# Altium footprint library KF接线端子.PcbLib: 35 footprints (part 3 of 3)
Each footprint in its own frame and in the unit in brackets; x right, y up, seen from the top. Pads: shape width x height; smd on the part's side, far side on the other; paste and mask are expansions set on the pad; w line width, h text height; cw(c..) or ccw(c..) is an arc to the next point about the centre after c.
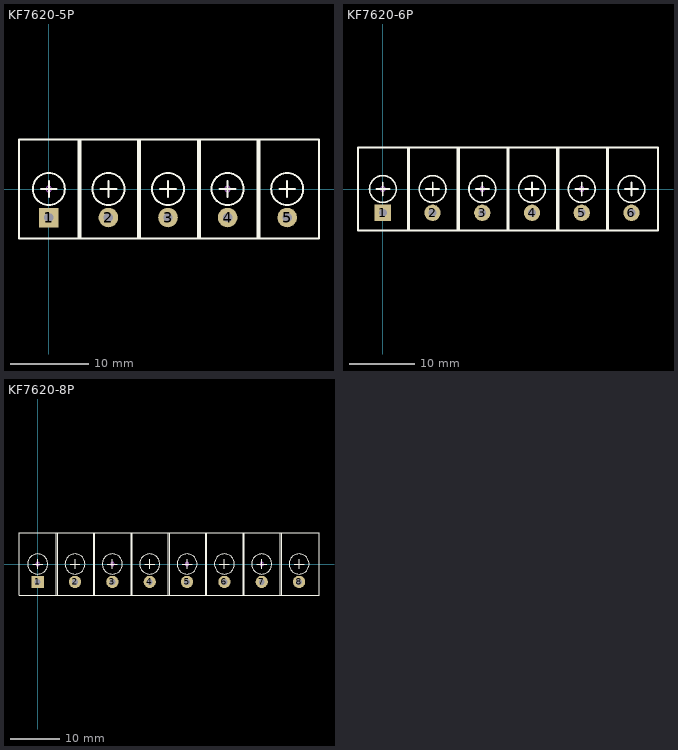
[diagram p2: the footprints below, top view; thin cyan lines are the x and y axes]

## KF7620-5P [mm] "38.1*12*12mm(长宽高)"
pads (5):
  rect 2.5x2.5 hole 1.2: 1(0,-3.65)
  round 2.5 hole 1.2: 2(7.62,-3.65) 3(15.24,-3.65) 4(22.86,-3.65) 5(30.48,-3.65)
Top Overlay:
  circle w0.254: c22.86,0 r2.048
  circle w0.254: c30.48,0 r2.048
  circle w0.254: c0,0 r2.048
  circle w0.254: c7.62,0 r2.048
  circle w0.254: c15.24,0 r2.048
  lines w0.254: -1.016,0 1.016,0 ; 0,-1.016 0,1.016 ; 3.81,-6.35 3.81,6.35 ; 4.064,6.35 4.064,-6.35 4.318,-6.35 ; 6.604,0 8.636,0 ; 7.62,-1.016 7.62,1.016 ; 11.43,-6.35 11.43,6.35 ; 14.224,0 16.256,0 ; 15.24,-1.016 15.24,1.016 ; 21.844,0 23.876,0 ; 22.86,-1.016 22.86,1.016 ; 26.67,-6.35 26.67,6.35 ; 26.924,6.35 26.924,-6.35 27.178,-6.35 ; 29.464,0 31.496,0 ; 30.48,-1.016 30.48,1.016 ; 11.684,-6.35 11.684,6.35 ; 11.684,-6.35 -3.81,-6.35 -3.81,6.35 11.684,6.35 ; 11.684,-6.35 19.304,-6.35 19.304,6.35 11.684,6.35 ; 19.05,-6.35 34.544,-6.35 34.544,6.35 19.05,6.35 19.05,-6.35
Mechanical 15:
  circle w0.05: c22.86,0 r0.35
  circle w0.05: c0,0 r0.35
  lines w0.05: -0.5,0 0.5,0 ; 0,-0.5 0,0.5 ; 22.36,0 23.36,0 ; 22.86,-0.5 22.86,0.5
3D body "KF7620.STEP": height 12.45, standoff -3.45, extent 26.67,-6.2 34.99,6.2
3D body "KF7620.STEP": height 12.45, standoff -3.45, extent 19.05,-6.2 27.37,6.2
3D body "KF7620.STEP": height 12.45, standoff -3.45, extent 3.81,-6.2 12.13,6.2
3D body "KF7620.STEP": height 12.45, standoff -3.45, extent -3.81,-6.2 4.51,6.2
3D body "KF7620.STEP": height 12.45, standoff -3.45, extent 11.43,-6.2 19.75,6.2

## KF7620-6P [mm] "45.7*12*12mm(长宽高)"
pads (6):
  rect 2.5x2.5 hole 1.2: 1(0,-3.65)
  round 2.5 hole 1.2: 2(7.62,-3.65) 3(15.24,-3.65) 4(22.86,-3.65) 5(30.48,-3.65) 6(38.1,-3.65)
Top Overlay:
  circle w0.254: c30.48,0 r2.048
  circle w0.254: c38.1,0 r2.048
  circle w0.254: c7.62,0 r2.048
  circle w0.254: c0,0 r2.048
  circle w0.254: c15.24,0 r2.048
  circle w0.254: c22.86,0 r2.048
  lines w0.254: -1.016,0 1.016,0 ; 0,-1.016 0,1.016 ; 3.81,-6.35 3.81,6.35 ; 4.064,6.35 4.064,-6.35 4.318,-6.35 ; 6.604,0 8.636,0 ; 7.62,-1.016 7.62,1.016 ; 14.224,0 16.256,0 ; 15.24,-1.016 15.24,1.016 ; 19.05,-6.35 19.05,6.35 ; 19.304,6.35 19.304,-6.35 19.558,-6.35 ; 21.844,0 23.876,0 ; 22.86,-1.016 22.86,1.016 ; 29.464,0 31.496,0 ; 30.48,-1.016 30.48,1.016 ; 34.29,-6.35 34.29,6.35 ; 34.544,6.35 34.544,-6.35 34.798,-6.35 ; 37.084,0 39.116,0 ; 38.1,-1.016 38.1,1.016 ; -3.81,-6.35 -3.81,6.35 11.684,6.35 11.684,-6.35 -3.81,-6.35 ; 11.43,-6.35 26.924,-6.35 26.924,6.35 11.43,6.35 11.43,-6.35 ; 26.67,-6.35 42.164,-6.35 42.164,6.35 26.67,6.35 26.67,-6.35
Mechanical 15:
  circle w0.05: c30.48,0 r0.35
  circle w0.05: c0,0 r0.35
  circle w0.05: c15.24,0 r0.35
  lines w0.05: -0.5,0 0.5,0 ; 0,-0.5 0,0.5 ; 14.74,0 15.74,0 ; 15.24,-0.5 15.24,0.5 ; 29.98,0 30.98,0 ; 30.48,-0.5 30.48,0.5
3D body "KF7620.STEP": height 12.45, standoff -3.45, extent 34.29,-6.2 42.61,6.2
3D body "KF7620.STEP": height 12.45, standoff -3.45, extent 26.67,-6.2 34.99,6.2
3D body "KF7620.STEP": height 12.45, standoff -3.45, extent -3.81,-6.2 4.51,6.2
3D body "KF7620.STEP": height 12.45, standoff -3.45, extent 3.81,-6.2 12.13,6.2
3D body "KF7620.STEP": height 12.45, standoff -3.45, extent 19.05,-6.2 27.37,6.2
3D body "KF7620.STEP": height 12.45, standoff -3.45, extent 11.43,-6.2 19.75,6.2

## KF7620-8P [mm] "61*12*12mm(长宽高)"
pads (8):
  rect 2.5x2.5 hole 1.2: 1(0,-3.65)
  round 2.5 hole 1.2: 2(7.62,-3.65) 3(15.24,-3.65) 4(22.86,-3.65) 5(30.48,-3.65) 6(38.1,-3.65) 7(45.72,-3.65) 8(53.34,-3.65)
Top Overlay:
  circle w0.254: c53.34,0 r2.048
  circle w0.254: c45.72,0 r2.048
  circle w0.254: c30.48,0 r2.048
  circle w0.254: c38.1,0 r2.048
  circle w0.254: c7.62,0 r2.048
  circle w0.254: c0,0 r2.048
  circle w0.254: c15.24,0 r2.048
  circle w0.254: c22.86,0 r2.048
  lines w0.254: -1.016,0 1.016,0 ; 0,-1.016 0,1.016 ; 3.81,-6.35 3.81,6.35 ; 4.064,6.35 4.064,-6.35 4.318,-6.35 ; 6.604,0 8.636,0 ; 7.62,-1.016 7.62,1.016 ; 14.224,0 16.256,0 ; 15.24,-1.016 15.24,1.016 ; 19.05,-6.35 19.05,6.35 ; 19.304,6.35 19.304,-6.35 19.558,-6.35 ; 21.844,0 23.876,0 ; 22.86,-1.016 22.86,1.016 ; 29.464,0 31.496,0 ; 30.48,-1.016 30.48,1.016 ; 34.29,-6.35 34.29,6.35 ; 34.544,6.35 34.544,-6.35 34.798,-6.35 ; 37.084,0 39.116,0 ; 38.1,-1.016 38.1,1.016 ; 44.704,0 46.736,0 ; 45.72,-1.016 45.72,1.016 ; 49.53,-6.35 49.53,6.35 ; 49.784,6.35 49.784,-6.35 50.038,-6.35 ; 52.324,0 54.356,0 ; 53.34,-1.016 53.34,1.016 ; -3.81,-6.35 -3.81,6.35 11.684,6.35 11.684,-6.35 -3.81,-6.35 ; 11.43,-6.35 26.924,-6.35 26.924,6.35 11.43,6.35 11.43,-6.35 ; 26.67,-6.35 42.164,-6.35 42.164,6.35 26.67,6.35 26.67,-6.35 ; 41.91,-6.35 41.91,6.35 57.404,6.35 57.404,-6.35 41.91,-6.35
Mechanical 15:
  circle w0.05: c45.72,0 r0.35
  circle w0.05: c30.48,0 r0.35
  circle w0.05: c0,0 r0.35
  circle w0.05: c15.24,0 r0.35
  lines w0.05: -0.5,0 0.5,0 ; 0,-0.5 0,0.5 ; 14.74,0 15.74,0 ; 15.24,-0.5 15.24,0.5 ; 29.98,0 30.98,0 ; 30.48,-0.5 30.48,0.5 ; 45.22,0 46.22,0 ; 45.72,-0.5 45.72,0.5
3D body "KF7620.STEP": height 12.45, standoff -3.45, extent 41.91,-6.2 50.23,6.2
3D body "KF7620.STEP": height 12.45, standoff -3.45, extent 49.53,-6.2 57.85,6.2
3D body "KF7620.STEP": height 12.45, standoff -3.45, extent 34.29,-6.2 42.61,6.2
3D body "KF7620.STEP": height 12.45, standoff -3.45, extent 26.67,-6.2 34.99,6.2
3D body "KF7620.STEP": height 12.45, standoff -3.45, extent -3.81,-6.2 4.51,6.2
3D body "KF7620.STEP": height 12.45, standoff -3.45, extent 3.81,-6.2 12.13,6.2
3D body "KF7620.STEP": height 12.45, standoff -3.45, extent 19.05,-6.2 27.37,6.2
3D body "KF7620.STEP": height 12.45, standoff -3.45, extent 11.43,-6.2 19.75,6.2